# Altium footprint library 4smd300.PcbLib: 1 footprints
Each footprint in its own frame and in the unit in brackets; x right, y up, seen from the top. Pads: shape width x height; smd on the part's side, far side on the other; paste and mask are expansions set on the pad; w line width, h text height; cw(c..) or ccw(c..) is an arc to the next point about the centre after c.
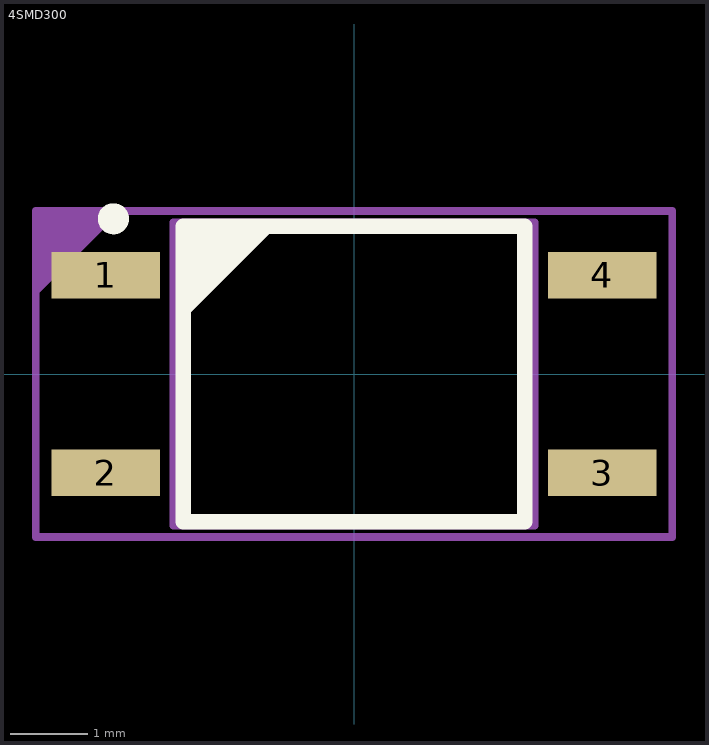
[diagram p0: the footprint, top view; thin cyan lines are the x and y axes]

## 4SMD300 [mm] "SOP, 4-Leads, Body 4.2x4.7mm (max), Pitch 2.54mm, IPC Medium Density"
height 2.1
pads (4):
  rect 1.4x0.6 smd: 1(-3.2,1.27) 2(-3.2,-1.27) 3(3.2,-1.27) 4(3.2,1.27)
Top Overlay:
  circle w0.2: c-3.1,2 r0.1
  region: -2.2,1.905 -1.005,1.905 -1,1.9 -2.2,0.7
  lines w0.2: -2.2,-1.905 2.2,-1.905 2.2,1.905 -2.2,1.905 -2.2,-1.905
Top 3D Body:
  lines w0.1: -2.325,-1.956 2.325,-1.956 2.325,1.956 -2.325,1.956 -2.325,-1.956
Top Courtyard:
  region: -4.1,2.1 -3,2.1 -4.1,1
  lines w0.1: -4.1,-2.1 4.1,-2.1 4.1,2.1 -4.1,2.1 -4.1,-2.1
Top Designator (Mech17):
  text ".Designator" at -1.374,-0.212 h0.64
3D body "User Library-SOP-4.STEP": height 2.06, standoff 0.01, extent -3.43,-2 3.43,2